# EAGLE library part ELECTRON (library collin)
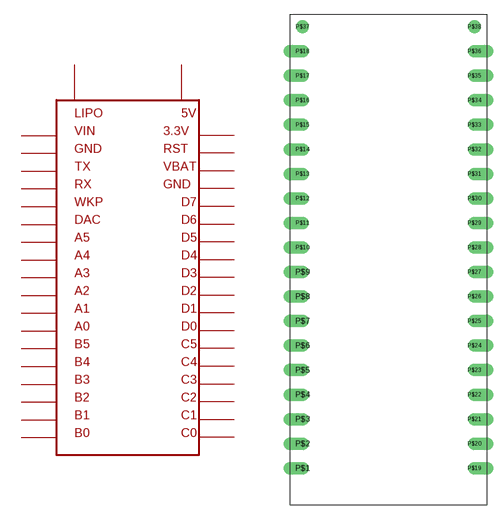
[diagram p1: symbol with the pads of ELECTRON; footprint ELECTRON]

Designator prefix -

## ELECTRON  [ELECTRON]
P$1  P$1
P$2  P$2
P$3  P$3
P$4  P$4
P$5  P$5
P$6  P$6
P$7  P$7
P$8  P$8
P$9  P$9
P$10  P$10
P$11  P$11
P$12  P$12
P$13  P$13
P$14  P$14
P$15  P$15
P$16  P$16
P$17  P$17
P$18  P$18
P$19  P$19
P$20  P$20
P$21  P$21
P$22  P$22
P$23  P$23
P$24  P$24
P$25  P$25
P$26  P$26
P$27  P$27
P$28  P$28
P$29  P$29
P$30  P$30
P$31  P$31
P$32  P$32
P$33  P$33
P$34  P$34
P$35  P$35
P$36  P$36
P$37  P$37
P$38  P$38

## Footprint ELECTRON (pad centres in mm)
drill 0.8 offset: P$1 1.27,3.81; P$2 1.27,6.35; P$3 1.27,8.89; P$4 1.27,11.43; P$5 1.27,13.97; P$6 1.27,16.51; P$7 1.27,19.05; P$8 1.27,21.59; P$9 1.27,24.13; P$10 1.27,26.67; P$11 1.27,29.21; P$12 1.27,31.75; P$13 1.27,34.29; P$14 1.27,36.83; P$15 1.27,39.37; P$16 1.27,41.91; P$17 1.27,44.45; P$18 1.27,46.99; P$19 19.05,3.81; P$20 19.05,6.35; P$21 19.05,8.89; P$22 19.05,11.43; P$23 19.05,13.97; P$24 19.05,16.51; P$25 19.05,19.05; P$26 19.05,21.59; P$27 19.05,24.13; P$28 19.05,26.67; P$29 19.05,29.21; P$30 19.05,31.75; P$31 19.05,34.29; P$32 19.05,36.83; P$33 19.05,39.37; P$34 19.05,41.91; P$35 19.05,44.45; P$36 19.05,46.99
drill 0.8: P$37 1.27,49.53; P$38 19.05,49.53